# Altium footprint library SW_GF-126-0159.PcbLib: 1 footprints
Each footprint in its own frame and in the unit in brackets; x right, y up, seen from the top. Pads: shape width x height; smd on the part's side, far side on the other; paste and mask are expansions set on the pad; w line width, h text height; cw(c..) or ccw(c..) is an arc to the next point about the centre after c.
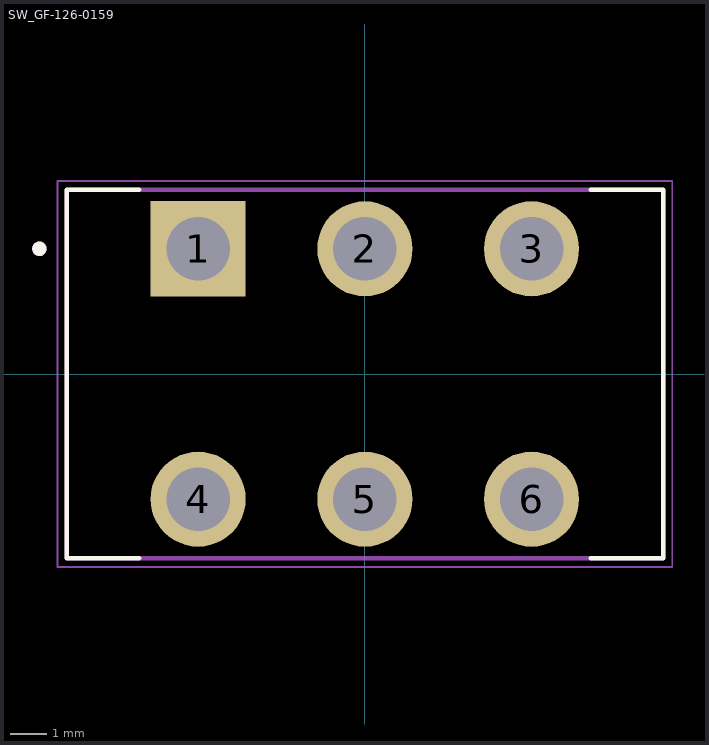
[diagram p0: the footprint, top view; thin cyan lines are the x and y axes]

## SW_GF-126-0159 [mm]
pads (6):
  rect 2.625x2.625 / inner round 2.625 / far side rect 2.625x2.625 hole 1.75: 1(-4.6,3.455)
  round 2.625 hole 1.75: 2(0,3.455) 3(4.6,3.455) 4(-4.6,-3.455) 5(0,-3.455) 6(4.6,-3.455)
Top Overlay:
  circle w0.2: c-8.98,3.455 r0.1
  lines w0.127: -6.232,-5.08 -8.23,-5.08 -8.23,5.08 -6.232,5.08 ; 6.232,-5.08 8.23,-5.08 8.23,5.08 6.232,5.08
Mechanical 13:
  circle w0.2: c-8.98,3.455 r0.1
  lines w0.127: -8.23,-5.08 8.23,-5.08 8.23,5.08 -8.23,5.08 -8.23,-5.08
Mechanical 15:
  lines w0.05: -8.48,-5.33 -8.48,5.33 8.48,5.33 8.48,-5.33 -8.48,-5.33